# Altium footprint library Conn_PcbLib.PcbLib: 5 footprints
Each footprint in its own frame and in the unit in brackets; x right, y up, seen from the top. Pads: shape width x height; smd on the part's side, far side on the other; paste and mask are expansions set on the pad; w line width, h text height; cw(c..) or ccw(c..) is an arc to the next point about the centre after c.
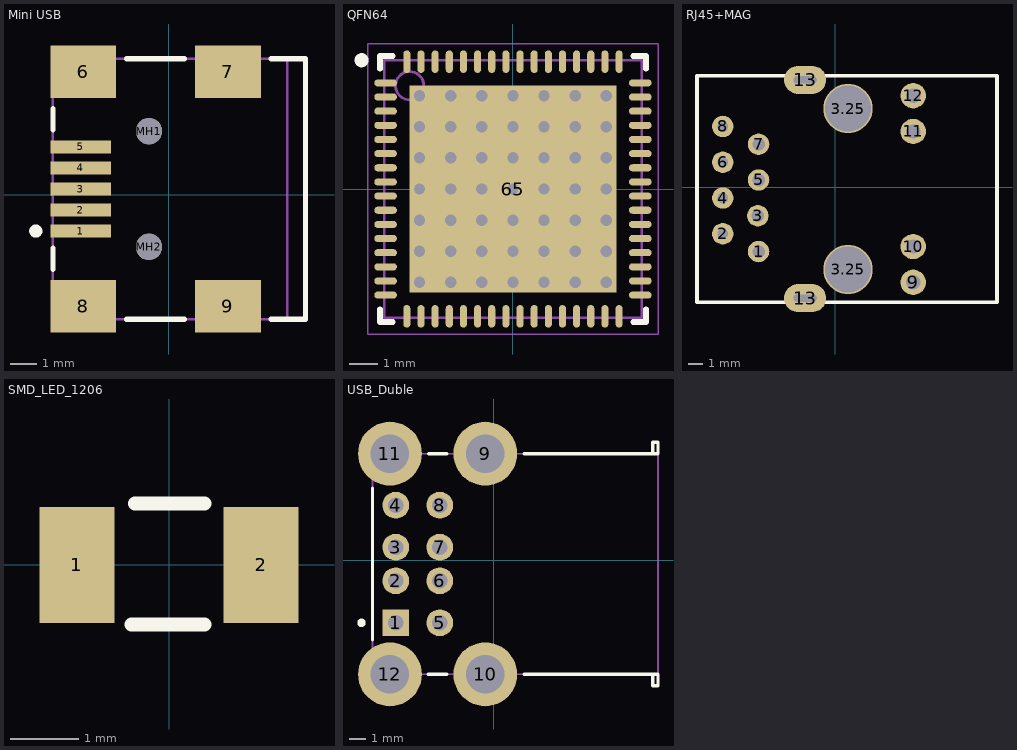
[diagram p0: the footprints below, top view; thin cyan lines are the x and y axes]

## Mini USB [mm]
pads (11):
  rect 2.3x0.5 smd: 1(-3.362,-1.387) 2(-3.362,-0.587) 3(-3.362,0.213) 4(-3.362,1.013) 5(-3.362,1.813)
  rect 2.5x2 smd: 6(-3.262,4.663) 7(2.238,4.663) 8(-3.262,-4.237) 9(2.238,-4.237)
  round 1 hole 1 unplated: MH1(-0.762,2.413) MH2(-0.762,-1.987)
Top Overlay:
  circle w0.25: c-5.062,-1.387 r0.125
  lines w0.2: -4.412,-2.837 -4.412,-2.037 ; -4.412,2.463 -4.412,3.263 ; -1.612,-4.737 0.588,-4.737 ; -1.612,5.163 0.588,5.163 ; 3.888,-4.737 5.188,-4.737 5.188,5.163 3.888,5.163
Mechanical 1:
  lines w0.1: 4.488,-4.737 4.488,5.163
  text "PCB Edge" at 4.92,-3.823 h0.25
Mechanical 13:
  lines w0.1: -4.412,-4.737 -4.412,5.163 5.188,5.163 5.188,-4.737 -4.412,-4.737
3D body: height 3.93, standoff -1, extent -4.125,-4.85 5.125,5.05

## QFN64 [mm] "QFN, 64-Leads, Body 9.00x9.00mm, Pitch 0.50mm, Thermal Pad 7.30x7.30mm, IPC Medium Density"
height 1
pads (65):
  oval 0.8x0.25 smd: 1(-4.5,3.75) 2(-4.5,3.25) 3(-4.5,2.75) 4(-4.5,2.25) 5(-4.5,1.75) 6(-4.5,1.25) 7(-4.5,0.75) 8(-4.5,0.25) 9(-4.5,-0.25) 10(-4.5,-0.75) 11(-4.5,-1.25) 12(-4.5,-1.75) 13(-4.5,-2.25) 14(-4.5,-2.75) 15(-4.5,-3.25) 16(-4.5,-3.75) 33(4.5,-3.75) 34(4.5,-3.25) 35(4.5,-2.75) 36(4.5,-2.25) 37(4.5,-1.75) 38(4.5,-1.25) 39(4.5,-0.75) 40(4.5,-0.25) 41(4.5,0.25) 42(4.5,0.75) 43(4.5,1.25) 44(4.5,1.75) 45(4.5,2.25) 46(4.5,2.75) 47(4.5,3.25) 48(4.5,3.75)
  oval 0.25x0.8 smd: 17(-3.75,-4.5) 18(-3.25,-4.5) 19(-2.75,-4.5) 20(-2.25,-4.5) 21(-1.75,-4.5) 22(-1.25,-4.5) 23(-0.75,-4.5) 24(-0.25,-4.5) 25(0.25,-4.5) 26(0.75,-4.5) 27(1.25,-4.5) 28(1.75,-4.5) 29(2.25,-4.5) 30(2.75,-4.5) 31(3.25,-4.5) 32(3.75,-4.5) 49(3.75,4.5) 50(3.25,4.5) 51(2.75,4.5) 52(2.25,4.5) 53(1.75,4.5) 54(1.25,4.5) 55(0.75,4.5) 56(0.25,4.5) 57(-0.25,4.5) 58(-0.75,4.5) 59(-1.25,4.5) 60(-1.75,4.5) 61(-2.25,4.5) 62(-2.75,4.5) 63(-3.25,4.5) 64(-3.75,4.5)
  rect 7.3x7.3 smd: 65(0,0)
via -3.3,3.3 diameter 0.6 hole 0.4
via -2.2,3.3 diameter 0.6 hole 0.4
via -1.1,3.3 diameter 0.6 hole 0.4
via 0,3.3 diameter 0.6 hole 0.4
via 1.1,3.3 diameter 0.6 hole 0.4
via 2.2,3.3 diameter 0.6 hole 0.4
via 3.3,3.3 diameter 0.6 hole 0.4
via -3.3,2.2 diameter 0.6 hole 0.4
via -2.2,2.2 diameter 0.6 hole 0.4
via -1.1,2.2 diameter 0.6 hole 0.4
via 0,2.2 diameter 0.6 hole 0.4
via 1.1,2.2 diameter 0.6 hole 0.4
via 2.2,2.2 diameter 0.6 hole 0.4
via 3.3,2.2 diameter 0.6 hole 0.4
via -3.3,1.1 diameter 0.6 hole 0.4
via -2.2,1.1 diameter 0.6 hole 0.4
via -1.1,1.1 diameter 0.6 hole 0.4
via 0,1.1 diameter 0.6 hole 0.4
via 1.1,1.1 diameter 0.6 hole 0.4
via 2.2,1.1 diameter 0.6 hole 0.4
via 3.3,1.1 diameter 0.6 hole 0.4
via -3.3,0 diameter 0.6 hole 0.4
via -2.2,0 diameter 0.6 hole 0.4
via -1.1,0 diameter 0.6 hole 0.4
via 0,0 diameter 0.6 hole 0.4
via 1.1,0 diameter 0.6 hole 0.4
via 2.2,0 diameter 0.6 hole 0.4
via 3.3,0 diameter 0.6 hole 0.4
via -3.3,-1.1 diameter 0.6 hole 0.4
via -2.2,-1.1 diameter 0.6 hole 0.4
via -1.1,-1.1 diameter 0.6 hole 0.4
via 0,-1.1 diameter 0.6 hole 0.4
via 1.1,-1.1 diameter 0.6 hole 0.4
via 2.2,-1.1 diameter 0.6 hole 0.4
via 3.3,-1.1 diameter 0.6 hole 0.4
via -3.3,-2.2 diameter 0.6 hole 0.4
via -2.2,-2.2 diameter 0.6 hole 0.4
via -1.1,-2.2 diameter 0.6 hole 0.4
via 0,-2.2 diameter 0.6 hole 0.4
via 1.1,-2.2 diameter 0.6 hole 0.4
via 2.2,-2.2 diameter 0.6 hole 0.4
via 3.3,-2.2 diameter 0.6 hole 0.4
via -3.3,-3.3 diameter 0.6 hole 0.4
via -2.2,-3.3 diameter 0.6 hole 0.4
via -1.1,-3.3 diameter 0.6 hole 0.4
via 0,-3.3 diameter 0.6 hole 0.4
via 1.1,-3.3 diameter 0.6 hole 0.4
via 2.2,-3.3 diameter 0.6 hole 0.4
via 3.3,-3.3 diameter 0.6 hole 0.4
Top Overlay:
  circle w0.25: c-5.35,4.55 r0.125
  lines w0.2: -4.7,-4.25 -4.7,-4.7 -4.25,-4.7 ; -4.7,4.25 -4.7,4.7 -4.25,4.7 ; 4.25,-4.7 4.7,-4.7 4.7,-4.25 ; 4.25,4.7 4.7,4.7 4.7,4.25
Mechanical 13:
  circle w0.1: c-3.65,3.65 r0.5
  lines w0.1: -4.55,-4.55 -4.55,4.55 4.55,4.55 4.55,-4.55 -4.55,-4.55
Mechanical 15:
  lines w0.05: -5.125,-5.125 -5.125,5.125 5.125,5.125 5.125,-5.125 -5.125,-5.125
  lines w0.1: -0.5,0 0.5,0 ; 0,-0.5 0,0.5
3D body: height 0.9, standoff 0, extent -4.52,-4.52 4.52,4.52

## RJ45+MAG [mil]
pads (16):
  round 60 hole 35.04: 1(-215,-180) 3(-217.13,-80) 5(-215,20) 7(-215,120)
  round 60 hole 30: 2(-315,-130.39) 4(-315,-30.39) 6(-315,69.61) 8(-315,169.61)
  round 137.8 hole 127.95: 3.25(35,-230.2) 3.25(35,219.8)
  round 70.87 hole 40.16: 9(217.28,-266.02) 10(217.28,-166.02) 11(217.28,155.63) 12(217.28,255.63)
  oval 118.11x78.74 hole 19.68 slot 64.17 at 0 deg: 13(-85.08,-310.12) 13(-85.08,299.72)
Top Overlay:
  lines w10: -387.13,311.65 -387.13,-322.13 451.46,-322.13 451.46,311.73 -387.13,311.73
3D body: height 579.55, standoff -155.2, extent -377.56,-320.51 462.44,309.49

## SMD_LED_1206 [mm] "Chip Capacitor, 2-Leads, Body 1.00x0.50mm, IPC Medium Density"
height 0.6
pads (2):
  rect 1.1x1.7 smd: 1(-1.35,0) 2(1.35,0)
Top Overlay:
  lines w0.2: -0.55,-0.875 0.525,-0.875 ; -0.5,0.9 0.525,0.9
3D body: height 1.1, standoff 0, extent -1.6,-0.8 1.6,0.8

## USB_Duble [mm]
height 8.5
pads (12):
  rect 1.6x1.6 hole 0.92: 1(-5.842,-3.738)
  round 1.6 hole 0.92: 2(-5.842,-1.238) 3(-5.842,0.762) 4(-5.842,3.262) 5(-3.222,-3.738) 6(-3.222,-1.238) 7(-3.222,0.762) 8(-3.222,3.262)
  round 3.8 hole 2.3: 9(-0.512,6.332) 10(-0.512,-6.808) 11(-6.192,6.332) 12(-6.192,-6.808)
Top Overlay:
  circle w0.25: c-7.882,-3.738 r0.125
  lines w0.2: -7.232,-4.748 -7.232,4.272 ; -3.912,-6.808 -2.812,-6.808 ; -3.892,6.332 -2.812,6.332 ; 1.798,-6.808 9.768,-6.808 9.768,-7.488 9.448,-7.488 9.448,-6.808 ; 1.798,6.332 9.768,6.332 9.768,7.012 9.448,7.012 9.448,6.332
Mechanical 1:
  lines w0.1: 9.768,-6.808 9.768,6.332
  text "PCB Edge" at 9.4,-6.388 h0.2
Mechanical 13:
  lines w0.1: -7.232,-7.488 -7.232,7.012 ; -7.232,-6.808 9.448,-6.808 9.448,-7.488 9.768,-7.488 9.768,7.012 9.448,7.012 9.448,6.332 -7.232,6.332
3D body: height 16.25, standoff -3.65, extent -7.352,-8.149 9.798,7.641